# EAGLE library part AVRISP (library Let'sMakeMyFabduino)
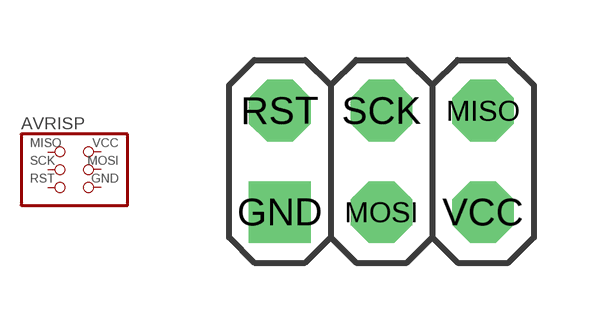
[diagram p5: symbol with the pads of AVRISP; footprint AVRISP]

Designator prefix -

## AVRISP  [AVRISP]
GND  GND  pas
MISO  MISO  pas
MOSI  MOSI  pas
RST  RST  pas
SCK  SCK  pas
VCC  VCC  pas

## Footprint AVRISP (pad centres in mm)
drill 1.03 pad 1.27 square: GND -1.27,-1.27
drill 1.03 pad 1.27 octagon: MISO 3.81,1.27; MOSI 1.27,-1.27; RST -1.27,1.27; SCK 1.27,1.27; VCC 3.81,-1.27